# Altium schematic symbol library Schematic_Library_1.SchLib: 23 symbols
Pins are listed as number, name and electrical type; pins without a type are passive.

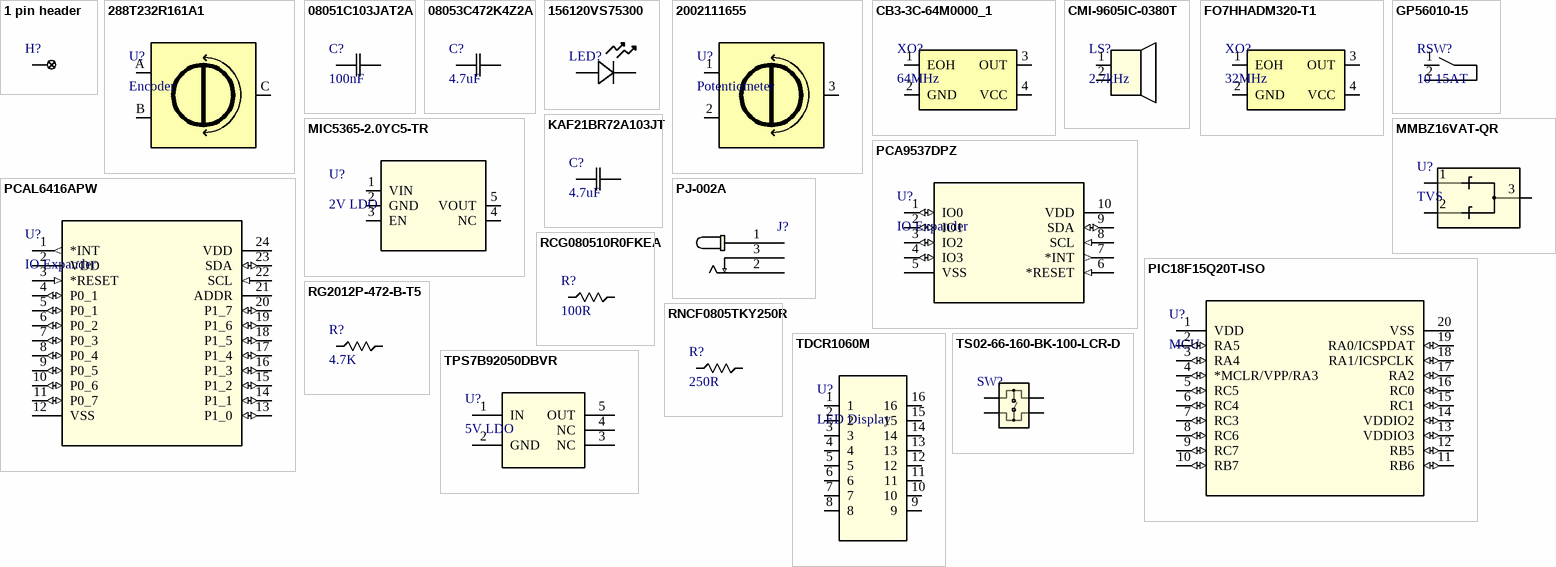
[diagram p0: symbols 1 pin header to TS02-66-160-BK-100-LCR-D]

## 1 pin header
designator H?, comment Output  (value not drawn)
footprint 1 pin header
pins: 1

## 288T232R161A1
designator U?, comment Encoder
2b Encoder
footprint 288T232R161A1
pins: A, B, C

## 08051C103JAT2A
designator C?, comment 100nF
Mfr_Name: KYOCERA AVX
footprint 0805_AVX
pins: 1, 2

## 08053C472K4Z2A
designator C?, comment 4.7uF
Mfr_Name: KYOCERA AVX
footprint CAP_08051A0R8CAT2A_AVX
pins: 1, 2

## 156120VS75300
designator LED?  (value not drawn)
LED; Mfr_Name: Wurth Electronics
footprint LED_VS75300_WRE
pins: 1, 2

## 2002111655
designator U?, comment Potentiometer
footprint 2002111655 (Potentiometer)
pins: 1, 2, 3

## CB3-3C-64M0000_1
designator XO?, comment 64MHz
64MHz Clock
footprint CB3-3C-64M0000
pins: 1 EOH, 2 GND, 3 OUT, 4 VCC

## CMI-9605IC-0380T
designator LS?, comment 2.7kHz
Buzzer; Mfr_Name: CUI Devices; RefDes: RefDes; Type: Type
footprint CMI-9605IC_CUD
pins: 1, 2

## FO7HHADM320-T1
designator XO?, comment 32MHz
32MHz Clock
footprint CB3-3C-64M0000
pins: 1 EOH, 2 GND, 3 OUT, 4 VCC

## GP56010-15
designator RSW?, comment 10-15AT
Reed switch
footprint GP56010-15
pins: 1, 2

## KAF21BR72A103JT
designator C?, comment 4.7uF
0.01uF; Mfr_Name: KYOCERA AVX
footprint CAP_08051A0R8CAT2A_AVX
pins: 1, 2

## MIC5365-2.0YC5-TR
designator U?, comment 2V LDO
Mfr_Name: Microchip; RefDes: RefDes; Type: Type
footprint SC-70_C5_MCH
pins: 1 VIN, 2 GND (power), 3 EN, 4 NC, 5 VOUT

## MMBZ16VAT-QR
designator U?, comment TVS
13V TVS; Mfr_Name: Bourns Electronics; RefDes: RefDes; Type: Type
footprint SOT_SM712
pins: 1, 2, 3

## PCA9537DPZ
designator U?, comment IO Expander
4 I/O expanderr; Mfr_Name: NXP; RefDes: RefDes; Type: Type
footprint TSSOP10_SOT552-1_NXP
pins: 1 IO0 (io), 2 IO1 (io), 3 IO2 (io), 4 IO3 (io), 5 VSS (power), 6 *RESET (in), 7 *INT (out), 8 SCL (in), 9 SDA (io), 10 VDD (power)

## PCAL6416APW
designator U?, comment IO Expander
16 I/O expander; Mfr_Name: NXP; RefDes: RefDes; Type: Type
footprint TSSOP24_4P5X7P9_NXP
pins: 1 *INT (out), 2 VDD, 3 *RESET (in), 4 P0_1 (io), 5 P0_1 (io), 6 P0_2 (io), 7 P0_3 (io), 8 P0_4 (io), 9 P0_5 (io), 10 P0_6 (io), 11 P0_7 (io), 12 VSS (power), 13 P1_0 (io), 14 P1_1 (io), 15 P1_2 (io), 16 P1_3 (io), 17 P1_4 (io), 18 P1_5 (io), 19 P1_6 (io), 20 P1_7 (io), 21 ADDR, 22 SCL (in), 23 SDA (io), 24 VDD

## PIC18F15Q20T-ISO
designator U?, comment MCU
PIC MCU; Mfr_Name: Microchip; RefDes: RefDes; Type: Type
footprint SOIC20_SO_MCH
pins: 1 VDD, 2 RA5 (io), 3 RA4 (io), 4 *MCLR/VPP/RA3 (io), 5 RC5 (io), 6 RC4 (io), 7 RC3 (io), 8 RC6 (io), 9 RC7 (io), 10 RB7 (io), 11 RB6 (io), 12 RB5 (io), 13 VDDIO3 (io), 14 VDDIO2 (io), 15 RC1 (io), 16 RC0 (io), 17 RA2 (io), 18 RA1/ICSPCLK (io), 19 RA0/ICSPDAT (io), 20 VSS

## PJ-002A
designator J?  (value not drawn)
DC power plug; Mfr_Name: CUI Devices; RefDes: RefDes; Type: Type
footprint PJ-002A_CUD
pins: 1, 2, 3

## RCG080510R0FKEA
designator R?, comment 100R
Mfr_Name: Vishay
footprint 0805_VIS
pins: 1, 2

## RG2012P-472-B-T5
designator R?, comment 4.7K
Mfr_Name: Susumu
footprint RES_1220_SUS
pins: 1, 2

## RNCF0805TKY250R
designator R?, comment 250R
Mfr_Name: Vishay
footprint 0805_VIS
pins: 1, 2

## TDCR1060M
designator U?, comment LED Display
4 digit LED display; Mfr_Name: Vishay; RefDes: RefDes; Type: Type
footprint TDCG1060M_VIS
pins: 1, 2, 3, 4, 5, 6, 7, 8, 9, 10, 11, 12, 13, 14, 15, 16

## TPS7B92050DBVR
designator U?, comment 5V LDO
Mfr_Name: Texas Instruments; RefDes: RefDes; Type: Type
footprint SOT-23-5-DBV_TEX
pins: 1 IN, 2 GND (power), 3 NC, 4 NC, 5 OUT

## TS02-66-160-BK-100-LCR-D
designator SW?  (value not drawn)
Push button
footprint TS02-66-160-BK-100-LCR-D (Push button)
pins: 1, 1 2, 2 3, 2 4